# Altium footprint library PIF_74HC595_DIP.PcbLib: 1 footprints
Each footprint in its own frame and in the unit in brackets; x right, y up, seen from the top. Pads: shape width x height; smd on the part's side, far side on the other; paste and mask are expansions set on the pad; w line width, h text height; cw(c..) or ccw(c..) is an arc to the next point about the centre after c.
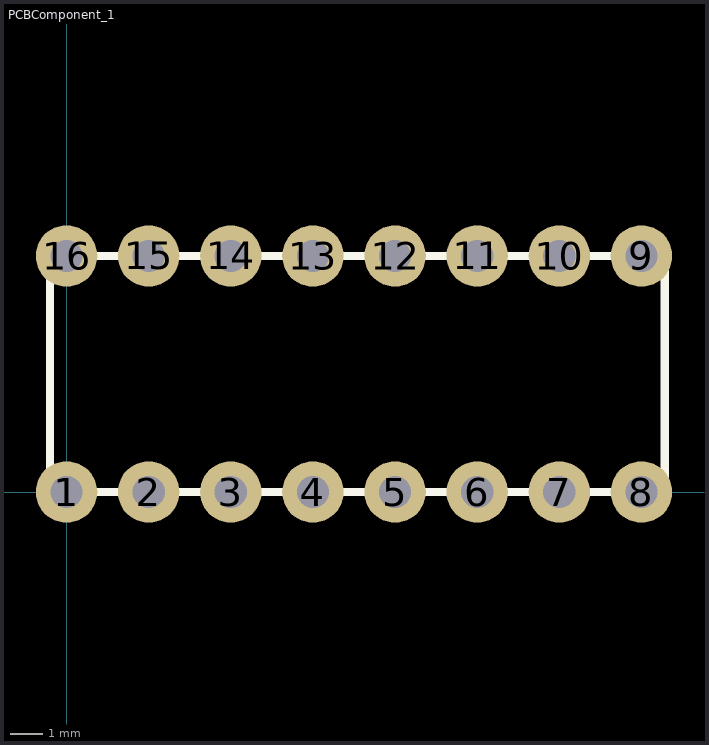
[diagram p0: the footprint, top view; thin cyan lines are the x and y axes]

## PCBComponent_1 [mm]
pads (18):
  round 1.9 hole 1 mask+0.102: 1(0,0) 1(0,0) 2(2.54,0) 3(5.08,0) 4(7.62,0) 5(10.16,0) 6(12.7,0) 7(15.24,0) 8(17.78,0) 9(17.78,7.3) 10(15.24,7.3) 11(12.7,7.3) 12(10.16,7.3) 13(7.62,7.3) 14(5.08,7.3) 15(2.54,7.3) 16(0,7.3)
  round 1.9 hole 0.9 mask+0.102: 1(0,0)
Top Overlay:
  lines w0.254: -0.515,0.014 -0.515,7.3 18.499,7.3 18.499,0 -0.5,0 -0.515,0.014
3D body "74hc595.stp": height 0, standoff -5.6, extent -0.5,-0.2 18.5,7.3